# Altium footprint library TK190U65Z,RQ.PcbLib: 1 footprints
Each footprint in its own frame and in the unit in brackets; x right, y up, seen from the top. Pads: shape width x height; smd on the part's side, far side on the other; paste and mask are expansions set on the pad; w line width, h text height; cw(c..) or ccw(c..) is an arc to the next point about the centre after c.
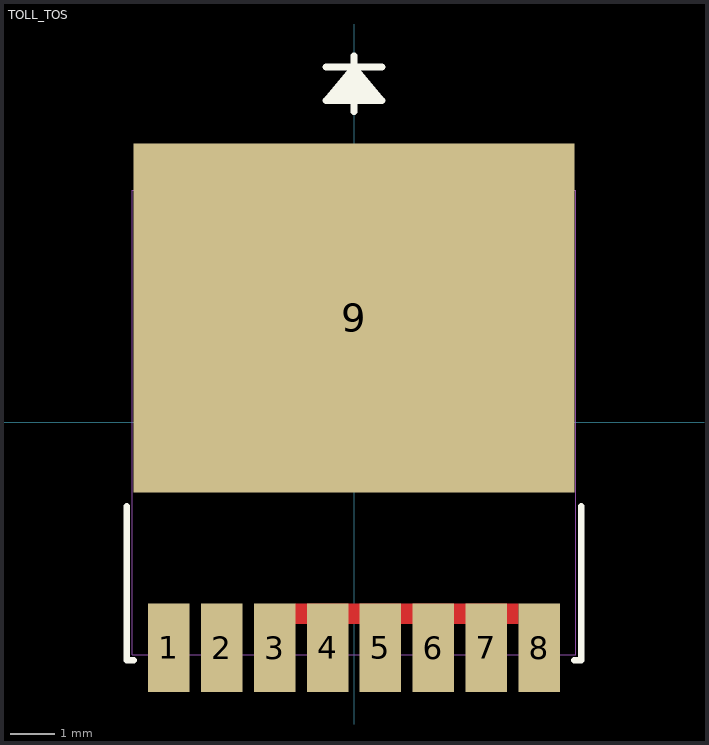
[diagram p0: the footprint, top view; thin cyan lines are the x and y axes]

## TOLL_TOS [mil]
pads (9):
  rect 37x79 smd paste+0 mask+0: 1(-165.35,-201.44) 2(-118.11,-201.44) 3(-70.87,-201.44) 4(-23.62,-201.44) 5(23.62,-201.44) 6(70.87,-201.44) 7(118.11,-201.44) 8(165.35,-201.44)
  rect 394x311.46 smd paste+0 mask+0: 9(0,93.33)
Top Layer:
  region: 146.85,-161.94 -52.37,-161.94 -52.37,-179.65 -42.12,-179.65 -42.12,-161.94 -5.12,-161.94 -5.12,-179.65 5.12,-179.65 5.12,-161.94 42.12,-161.94 42.12,-179.65 52.37,-179.65 52.37,-161.94 89.37,-161.94 89.37,-179.65 99.61,-179.65 99.61,-161.94 136.61,-161.94 136.61,-179.65 146.85,-179.65
Top Overlay:
  lines w6: -203,-75.11 -203,-212.5 -196.95,-212.5 ; -25,317.5 25,317.5 ; -20,287.5 0,317.5 ; -15,287.5 0,317.5 ; -10,287.5 0,317.5 ; -5,287.5 0,317.5 ; 0,277.5 0,327.5 ; 5,287.5 0,317.5 ; 10,287.5 0,317.5 ; 15,287.5 0,317.5 ; 20,287.5 0,317.5 ; 196.95,-212.5 203,-212.5 203,-75.11 ; 0,317.5 25,287.5 -25,287.5 0,317.5
Top Paste:
  region: 146.85,-161.94 -52.37,-161.94 -52.37,-179.65 -42.12,-179.65 -42.12,-161.94 -5.12,-161.94 -5.12,-179.65 5.12,-179.65 5.12,-161.94 42.12,-161.94 42.12,-179.65 52.37,-179.65 52.37,-161.94 89.37,-161.94 89.37,-179.65 99.61,-179.65 99.61,-161.94 136.61,-161.94 136.61,-179.65 146.85,-179.65
Top Solder:
  region: 146.85,-161.94 -52.37,-161.94 -52.37,-179.65 -42.12,-179.65 -42.12,-161.94 -5.12,-161.94 -5.12,-179.65 5.12,-179.65 5.12,-161.94 42.12,-161.94 42.12,-179.65 52.37,-179.65 52.37,-161.94 89.37,-161.94 89.37,-179.65 99.61,-179.65 99.61,-161.94 136.61,-161.94 136.61,-179.65 146.85,-179.65
Mechanical 13:
  lines w1: -25,317.5 25,317.5 ; -20,287.5 0,317.5 ; -15,287.5 0,317.5 ; -10,287.5 0,317.5 ; -5,287.5 0,317.5 ; 0,277.5 0,327.5 ; 5,287.5 0,317.5 ; 10,287.5 0,317.5 ; 15,287.5 0,317.5 ; 20,287.5 0,317.5 ; 0,317.5 25,287.5 -25,287.5 0,317.5 ; -198,-207.5 198,-207.5 198,207.5 -198,207.5 -198,-207.5
3D body "TOLL.step": height 90.55, standoff 0, extent -194.44,-213.23 195.32,246.62